# Altium schematic symbol library Batteryterminal.SchLib: 1 symbol
Pins are listed as number, name and electrical type; pins without a type are passive.

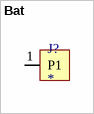
[diagram p0: symbol Bat]

## Bat
designator J?
Batteryterminal
footprint motorPads
pins: 1 P1